# Altium schematic symbol library Zener 5.1V 500mW.Schlib: 1 symbol
Pins are listed as number, name and electrical type; pins without a type are passive.

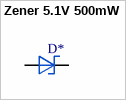
[diagram p0: symbol Zener 5.1V 500mW]

## Zener 5.1V 500mW
designator D*, comment MMSZ5231BT1G  (value not drawn)
5.1V ±5% 500mW 5uA @ 2V SOD-123 Zener Diode RoHS /; ComponentLink1Description: LCSC - ON Semiconductor MMSZ5231BT1G; ComponentLink1URL: https://lcsc.com/product-detail/Zener-Diodes_ON-Semiconductor-ON-Semiconductor-MMSZ5231BT1G_C66198.html
footprint SOD123
pins: 1 K, 2 A